# Altium schematic symbol library filter.SchLib: 16 symbols
Pins are listed as number, name and electrical type; pins without a type are passive.

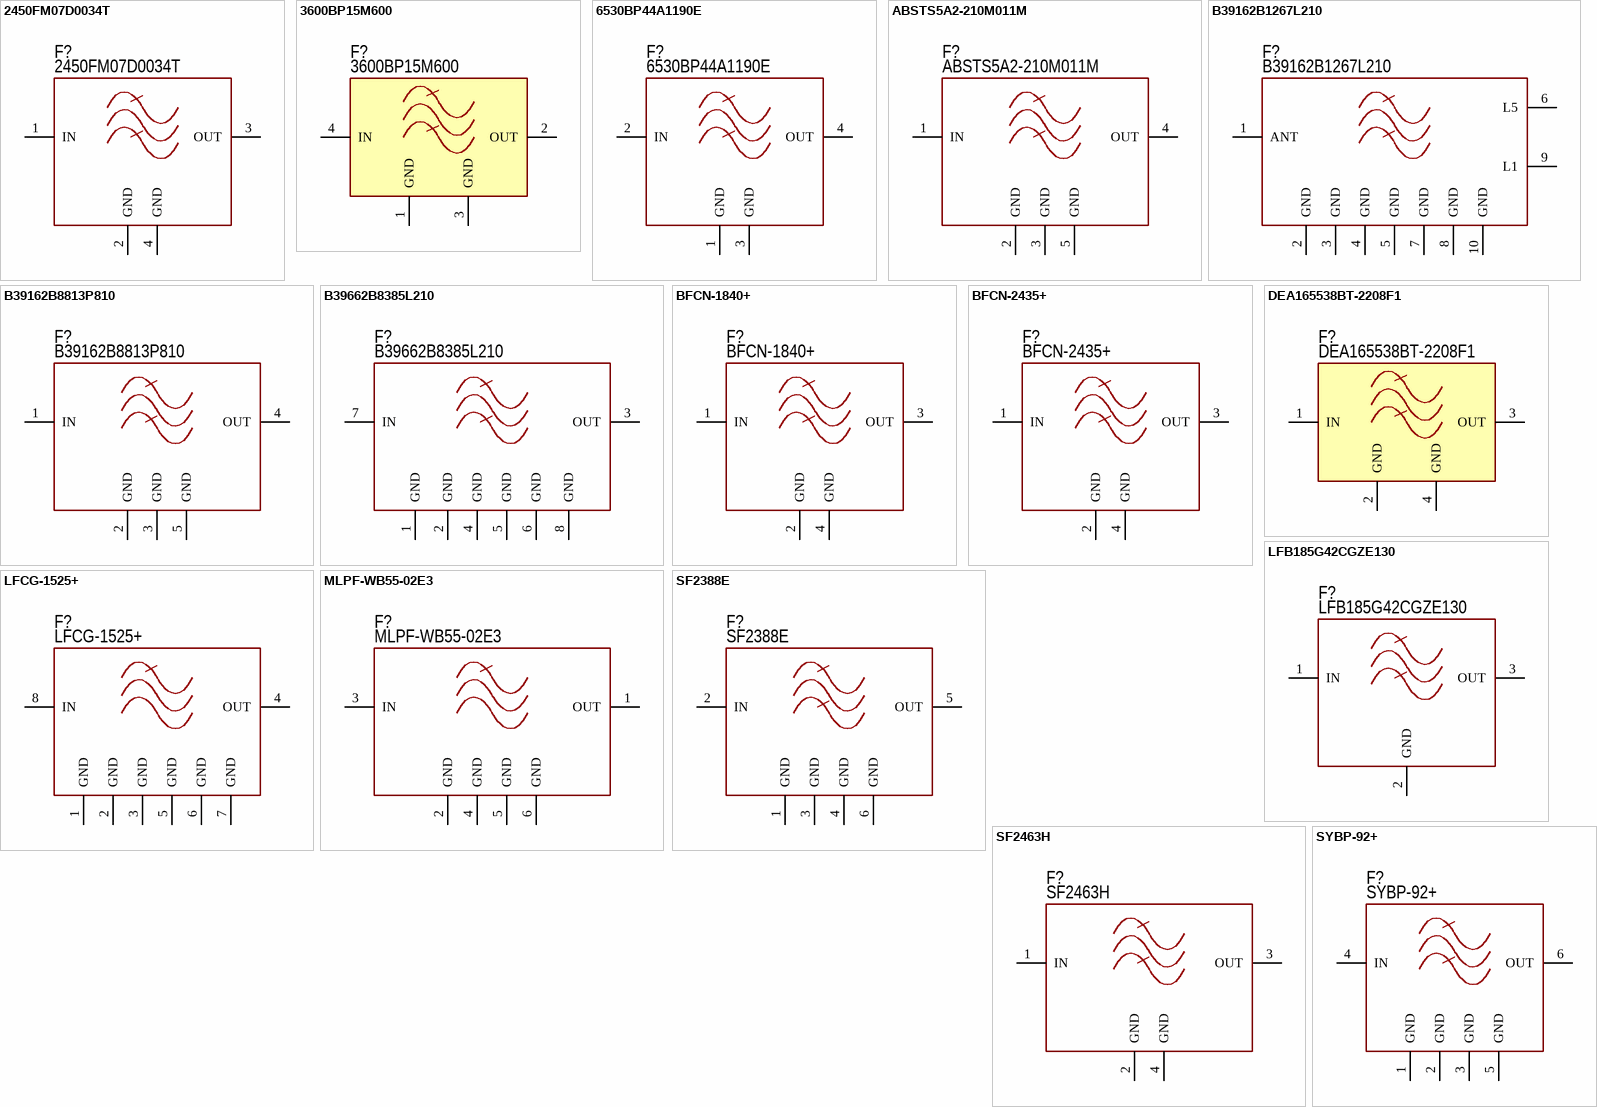
[diagram p0: symbols 2450FM07D0034T to SYBP-92+]

## 2450FM07D0034T
designator F?  PartNumber: 2450FM07D0034T
Band Pass Filter 2400-2500 MHz; Manufacturer: Johanson Technology; Impedance: 50Ohm; Frequency: 2400...2500MHz; HelpURL: https://eu.mouser.com/datasheet/2/611/2450FM07D0034-1519359.pdf; Package: Custom; ComponentType: filter; ValueManufacturerPartNumber: =ComponentType+', '+Frequency+', '+Supply+', '+Temperature+', '+Package; Temperature: -40...+85°C
footprint FLT: 2450FM07D0034T (Bandpass Filter)
pins: 1 IN, 2 GND (power), 3 OUT, 4 GND (power)

## 3600BP15M600
designator F?  PartNumber: 3600BP15M600
Band Pass Filter 3.3GHz to 3.9GHz; Manufacturer: Johanson Technology; Impedance: 50Ohm; Frequency: 3300...3900MHz; HelpURL: https://www.johansontechnology.com/docs/817/3600BP15M600_uwyGAQ3.pdf; Package: 0805; ComponentType: filter; ValueManufacturerPartNumber: =ComponentType+', '+Frequency+', '+Supply+', '+Temperature+', '+Package; Temperature: -40...+85°C
footprint FLT: 3600BP15M600
pins: 1 GND (power), 2 OUT, 3 GND (power), 4 IN

## 6530BP44A1190E
designator F?  PartNumber: 6530BP44A1190E
Band Pass Filter; Manufacturer: JOHANSON TECHNOLOGY; Impedance: 50Ohm; Frequency: 5925...7125MHz; HelpURL: https://www.mouser.ee/datasheet/2/611/6530BP44A1190-1877433.pdf; Package: 4.5x3.2mm; ComponentType: filter; ValueManufacturerPartNumber: =ComponentType+', '+Frequency+', '+Supply+', '+Temperature+', '+Package; Temperature: -40...+85°C
footprint FLT: 6530BP44A1190E
pins: 1 GND (power), 2 IN, 3 GND (power), 4 OUT

## ABSTS5A2-210M011M
designator F?  PartNumber: ABSTS5A2-210M011M
GNSS L1 SAW filter; Manufacturer: ABRACON; Impedance: 50Ohm; Frequency: 1164...1189MHz; HelpURL: https://www.mouser.ee/datasheet/2/3/ABSTS5A2_210M011M-2449265.pdf; Package: B8813; ComponentType: filter; ValueManufacturerPartNumber: =ComponentType+', '+Frequency+', '+Supply+', '+Temperature+', '+Package; Temperature: -20...+85°C
footprint FLT: B8813A (ABRACON)
pins: 1 IN, 2 GND (power), 3 GND (power), 4 OUT, 5 GND (power)

## B39162B1267L210
designator F?  PartNumber: B39162B1267L210
GNSS L1/5 Diplexer; Manufacturer: Qualcomm; Impedance: 50Ohm; Frequency: 1166...1186 & 1559...1606MHz; HelpURL: https://www.mouser.ee/datasheet/2/842/Qualcomm_B39162B1267L210-3074529.pdf; Package: 1.5x1.1x0.6 mm; ComponentType: diplexer; ValueManufacturerPartNumber: =ComponentType+', '+Frequency+', '+Supply+', '+Temperature+', '+Package; Temperature: -30...+85°C
footprint FLT: B39162B1267L210
pins: 1 ANT, 2 GND (power), 3 GND (power), 4 GND (power), 5 GND (power), 6 L5, 7 GND (power), 8 GND (power), 9 L1, 10 GND (power)

## B39162B8813P810
designator F?  PartNumber: B39162B8813P810
GNSS L1 SAW filter; Manufacturer: RFMi; Impedance: 50Ohm; Frequency: 1559.052...1605.89MHz; HelpURL: https://www.mouser.ee/datasheet/2/842/Qualcomm_B39162B8813P810-3074523.pdf; Package: B8813; ComponentType: filter; ValueManufacturerPartNumber: =ComponentType+', '+Frequency+', '+Supply+', '+Temperature+', '+Package; Temperature: -30...+85°C
footprint FLT: B8813
pins: 1 IN, 2 GND (power), 3 GND (power), 4 OUT, 5 GND (power)

## B39662B8385L210
designator F?  PartNumber: B39662B8385L210
Band Pass Filter; Manufacturer: Qualcomm; Impedance: 50Ohm; Frequency: 6105...7125MHz; HelpURL: https://www.mouser.ee/datasheet/2/842/Qualcomm_12_1_2022_B8385_v2_1_18x14_6_GHz_full_ban-3075663.pdf; Package: 1.8x1.4mm; ComponentType: filter; ValueManufacturerPartNumber: =ComponentType+', '+Frequency+', '+Supply+', '+Temperature+', '+Package; Temperature: -40...+95°C
footprint FLT: B39662B8385L210
pins: 1 GND (power), 2 GND (power), 3 OUT, 4 GND (power), 5 GND (power), 6 GND (power), 7 IN, 8 GND (power)

## BFCN-1840+
designator F?  PartNumber: BFCN-1840+
Band Pass Filter; Manufacturer: Mini-Circuits; Impedance: 50Ohm; Frequency: 1750...1930MHz; HelpURL: https://www.mouser.ee/datasheet/2/1030/BFCN-1840_2b-1700341.pdf; Package: FV1206; ComponentType: filter; ValueManufacturerPartNumber: =ComponentType+', '+Frequency+', '+Supply+', '+Temperature+', '+Package; Temperature: -55...+100°C
footprint FLT: FV1206 (Bandpass Filter)
pins: 1 IN, 2 GND (power), 3 OUT, 4 GND (power)

## BFCN-2435+
designator F?  PartNumber: BFCN-2435+
Band Pass Filter; Manufacturer: Mini-Circuits; Impedance: 50Ohm; Frequency: 2340...2530MHz; HelpURL: https://www.mouser.ee/datasheet/2/1030/BFCN-2435_2b-1700440.pdf; Package: TT1423; ComponentType: filter; ValueManufacturerPartNumber: =ComponentType+', '+Frequency+', '+Supply+', '+Temperature+', '+Package; Temperature: -55...+100°C
footprint FLT: FV1206 (Bandpass Filter)
pins: 1 IN, 2 GND (power), 3 OUT, 4 GND (power)

## DEA165538BT-2208F1
designator F?  PartNumber: DEA165538BT-2208F1
Band Pass Filter 5.15GHz to 5.925GHz; Manufacturer: TDK; Impedance: 50Ohm; Frequency: 5150...5925MHz; HelpURL: https://www.mouser.com/catalog/specsheets/TDK_DEA165538BT-2208F1_Ver_3_0_20210528.pdf?_gl=1*78cb6c*_ga*MjY2OTMxMjQ2LjE2ODYzMzQyOTA.*_ga_15W4STQT4T*MTY5Mjk0NzYyNS44LjEuMTY5Mjk0NzYzMC4wLjAuMA..*_ga_1KQLCYKRX3*MTY5Mjk0NzYyNS44LjEuMTY5Mjk0NzYzMC41NS4wLjA.; Package: EIA 0603; ComponentType: filter; ValueManufacturerPartNumber: =ComponentType+', '+Frequency+', '+Supply+', '+Temperature+', '+Package; Temperature: -40...+90°C
footprint FLT: EIA 0603 (Bandpass Filter)
pins: 1 IN, 2 GND (power), 3 OUT, 4 GND (power)

## LFB185G42CGZE130
designator F?  PartNumber: LFB185G42CGZE130
Band pass filter 5425 MHz with band range ± 525.00 MHz; Manufacturer: muRata; Impedance: 50 Ohm; HelpURL: https://eu.mouser.com/datasheet/2/281/1/LFB185G42CGZE130-2399438.pdf; Package: SMD 1.6x0.8; ComponentType: BPF; ValueManufacturerPartNumber: =ComponentType+', '+TypeProtocol+', '+Frequency+', '+CoreSize+', '+CoreProcessor+', '+MemoryROM+', '+MemoryRAM+', '+Supply+', '+Temperature+', '+Package; Temperature: -40...+105°C; CenterFrequency: 5425 MHz
footprint FLT: LFB185G42CGZE130
pins: 1 IN, 2 GND (power), 3 OUT

## LFCG-1525+
designator F?  PartNumber: LFCG-1525+
Low Pass Filter DC to 1525MHz; Manufacturer: Mini-Circuits; Impedance: 50Ohm; Frequency: 0...1525MHz; HelpURL: https://www.minicircuits.com/pdfs/LFCG-1525+.pdf; Package: 0805; ComponentType: filter; ValueManufacturerPartNumber: =ComponentType+', '+Frequency+', '+Supply+', '+Temperature+', '+Package; Temperature: -55...+125°C
footprint FLT: GE0805C-2 (Low Pass Filter)
pins: 1 GND (power), 2 GND (power), 3 GND (power), 4 OUT, 5 GND (power), 6 GND (power), 7 GND (power), 8 IN

## MLPF-WB55-02E3
designator F?  PartNumber: MLPF-WB55-02E3
2.4 GHz low pass filter matched to STM32WB55Vx; Manufacturer: ST Microelectronics; AntennaImpedance: 50 Ohm; Frequency: 2400-2500 MHz; HelpURL: https://www.mouser.ee/datasheet/2/389/mlpf_wb55_02e3-1773809.pdf; Package: LGA (6); ComponentType: filter; ValueManufacturerPartNumber: =ComponentType+', '+TypeProtocol+', '+Frequency+', '+CoreSize+', '+CoreProcessor+', '+MemoryROM+', '+MemoryRAM+', '+Supply+', '+Temperature+', '+Package; Temperature: -40...+105°C
footprint FLT: MLPF-WB55-02E3 (Integrated impedance matching and filter to STM32WB55Vx)
pins: 1 OUT, 2 GND (power), 3 IN, 4 GND (power), 5 GND (power), 6 GND (power)

## SF2388E
designator F?  PartNumber: SF2388E
GNSS L5 SAW filter; Manufacturer: RFMi; Impedance: 50Ohm; Frequency: 1166.45...1186.45MHz; HelpURL: https://www.mouser.ee/datasheet/2/1100/SF2388E-3134265.pdf; Package: SM3030-6; ComponentType: filter; ValueManufacturerPartNumber: =ComponentType+', '+Frequency+', '+Supply+', '+Temperature+', '+Package; Temperature: -40...+85°C
footprint FLT: SM3030-6 (SAW filter 3x3mm)
pins: 1 GND (power), 2 IN, 3 GND (power), 4 GND (power), 5 OUT, 6 GND (power)

## SF2463H
designator F?  PartNumber: SF2463H
GNSS L1 SAW filter; Manufacturer: RFMi; Impedance: 50Ohm; Frequency: 1559.05...1605.66MHz; HelpURL: https://www.rfmi.co/pdf/datasheet/SF2463H.pdf; Package: 2.0x1.6; ComponentType: filter; ValueManufacturerPartNumber: =ComponentType+', '+Frequency+', '+Supply+', '+Temperature+', '+Package; Temperature: -30...+85°C
footprint FLT: SM2016-4
pins: 1 IN, 2 GND (power), 3 OUT, 4 GND (power)

## SYBP-92+
designator F?  PartNumber: SYBP-92+
Band Pass Filter; Manufacturer: Mini-Circuits; Impedance: 50Ohm; Frequency: 800...1000MHz; HelpURL: https://www.mouser.ee/datasheet/2/1030/SYBP_92_2b-2936706.pdf; Package: TT1423; ComponentType: filter; ValueManufacturerPartNumber: =ComponentType+', '+Frequency+', '+Supply+', '+Temperature+', '+Package; Temperature: -40...+85°C
footprint FLT: TT1423
pins: 1 GND (power), 2 GND (power), 3 GND (power), 4 IN, 5 GND (power), 6 OUT